# Altium footprint library ATK-2014-09-12.PcbLib: 436 footprints (part 11 of 28)
Each footprint in its own frame and in the unit in brackets; x right, y up, seen from the top. Pads: shape width x height; smd on the part's side, far side on the other; paste and mask are expansions set on the pad; w line width, h text height; cw(c..) or ccw(c..) is an arc to the next point about the centre after c.
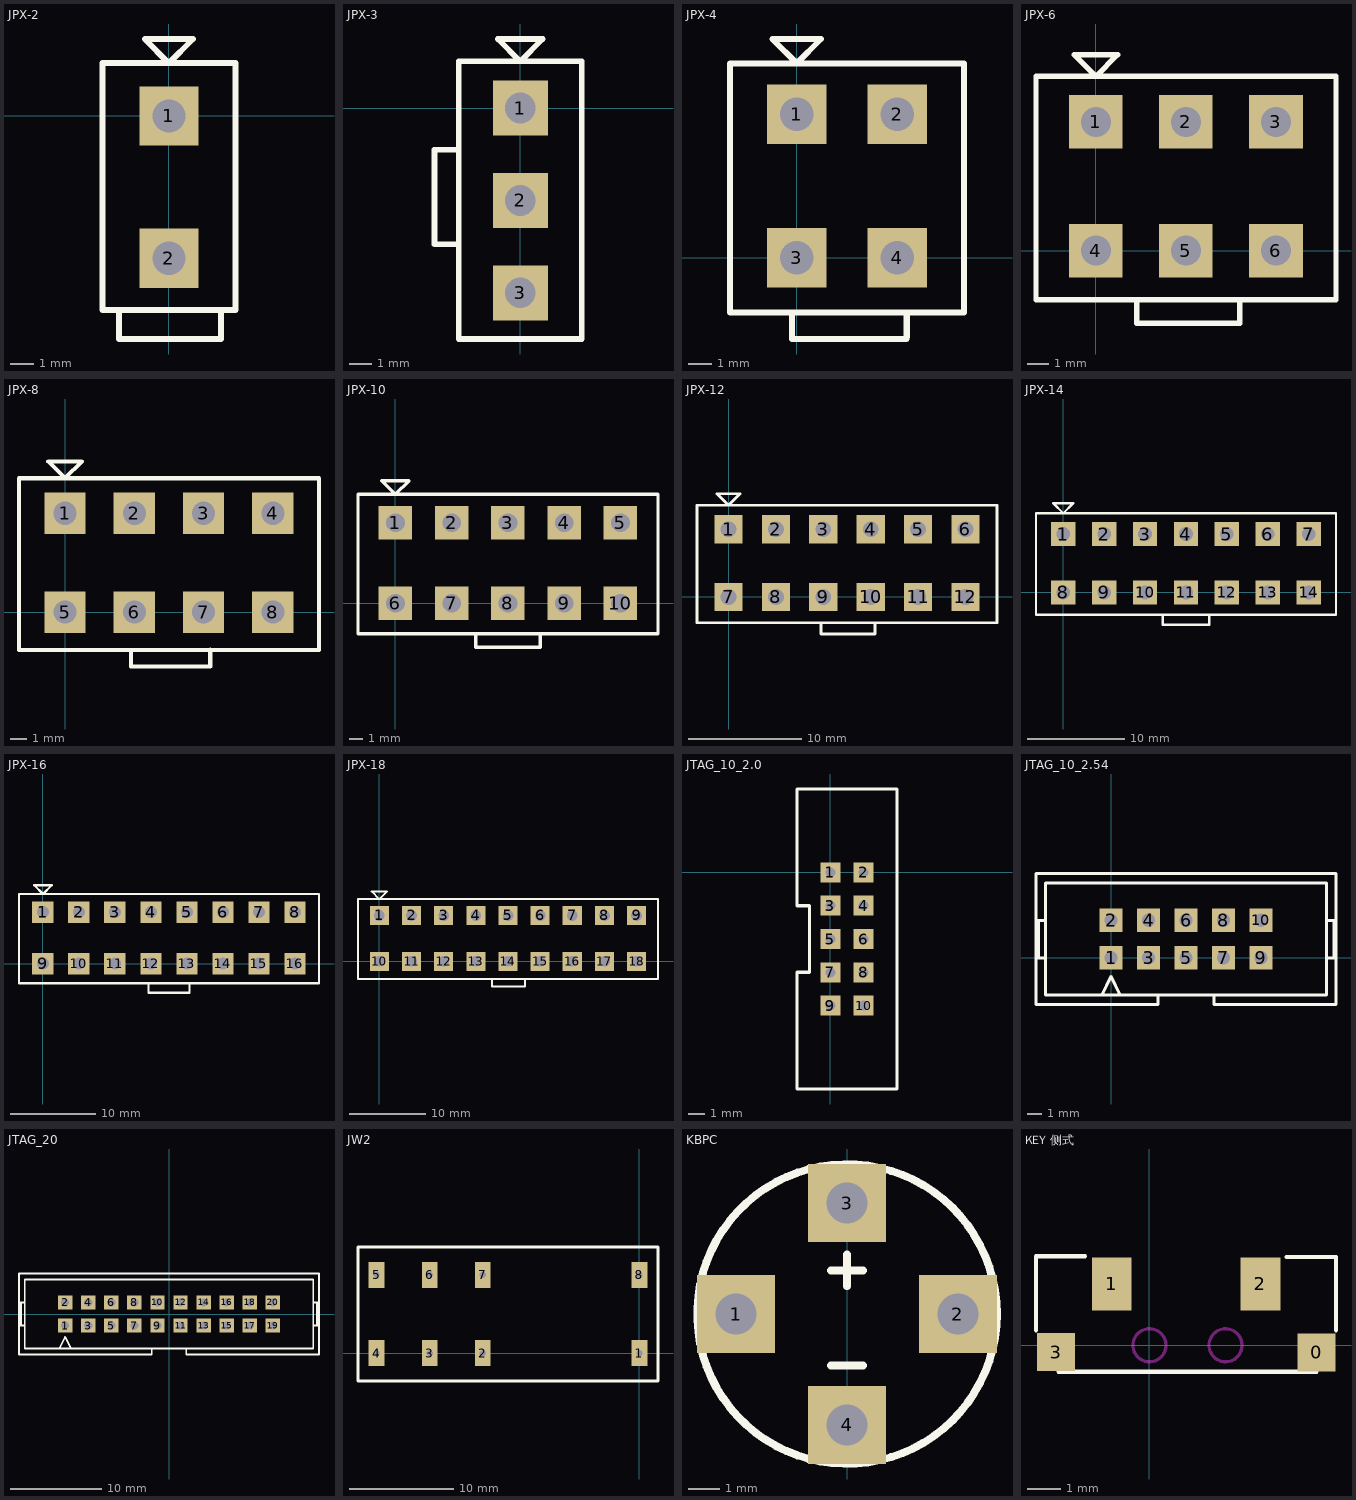
[diagram p10: the footprints below, top view; thin cyan lines are the x and y axes]

## JPX-2 [mm] "PIN:4.2*6mm;H:13mm;HOLE:1.4mm;"
height 13
pads (2):
  rect 2.5x2.5 hole 1.4: 1(0,0) 2(0,-6)
Top Overlay:
  lines w0.254: -2.1,-8.3 -2.1,-9.4 2.2,-9.4 ; 2.2,-9.316 2.2,-8.2 ; -2.794,-8.186 -2.794,2.228 2.8,2.228 2.8,-8.186 -2.794,-8.186 ; -1.016,3.244 1.016,3.244 0,2.228 -1.016,3.244

## JPX-3 [mm] "PIN:4.2*6mm;H:13mm;HOLE:1.4mm;"
height 13
pads (3):
  rect 2.5x2.5 hole 1.4: 1(0,0) 2(0,-4.2) 3(0,-8.4)
Top Overlay:
  lines w0.254: -3.916,-1.9 -2.8,-1.9 ; -3.9,-1.9 -3.9,-6.2 -2.8,-6.2 ; -2.794,-10.5 -2.794,2.128 2.8,2.128 2.8,-10.5 -2.794,-10.5 ; -1.016,3.144 1.016,3.144 0,2.128 -1.016,3.144

## JPX-4 [mm] "PIN:4.2*6mm;H:13mm;HOLE:1.4mm;"
height 13
pads (4):
  rect 2.5x2.5 hole 1.4: 1(0,6) 2(4.2,6) 3(0,0) 4(4.2,0)
Top Overlay:
  lines w0.254: -0.2,-2.4 -0.2,-3.4 4.598,-3.4 ; 4.6,-3.316 4.6,-2.3 ; -2.794,-2.286 7,-2.286 7,8.128 -2.794,8.128 -2.794,-2.286 ; -1.016,9.144 0,8.128 1.016,9.144 -1.016,9.144

## JPX-6 [mm] "PIN:4.2*6mm;H:13mm;HOLE:1.4mm;"
height 13
pads (6):
  rect 2.5x2.5 hole 1.4: 1(0,6) 2(4.2,6) 3(8.4,6) 4(0,0) 5(4.2,0) 6(8.4,0)
Top Overlay:
  lines w0.254: 1.9,-3.3 1.9,-2.3 ; 1.902,-3.4 6.7,-3.4 ; 6.7,-3.316 6.7,-2.3 ; -2.794,-2.286 11.2,-2.286 11.2,8.128 -2.794,8.128 -2.794,-2.286 ; -1.016,9.144 0,8.128 1.016,9.144 -1.016,9.144

## JPX-8 [mm] "PIN:4.2*6mm;H:13mm;HOLE:1.4mm;"
height 13
pads (8):
  rect 2.5x2.5 hole 1.4: 1(0,6) 2(4.2,6) 3(8.4,6) 4(12.6,6) 5(0,0) 6(4.2,0) 7(8.4,0) 8(12.6,0)
Top Overlay:
  lines w0.254: 4,-2.3 4,-3.3 8.798,-3.3 ; 8.8,-3.3 8.8,-2.284 ; -2.794,-2.286 -2.794,8.128 15.4,8.128 15.4,-2.286 -2.794,-2.286 ; -1.016,9.144 1.016,9.144 0,8.128 -1.016,9.144

## JPX-10 [mm] "PIN:4.2*6mm;H:13mm;HOLE:1.4mm;"
height 13
pads (10):
  rect 2.5x2.5 hole 1.4: 1(0,6) 2(4.2,6) 3(8.4,6) 4(12.6,6) 5(16.8,6) 6(0,0) 7(4.2,0) 8(8.4,0) 9(12.6,0) 10(16.8,0)
Top Overlay:
  lines w0.254: 6,-3.3 6,-2.284 ; 6.002,-3.3 10.8,-3.3 10.8,-2.284 ; 10.2,-3.3 10.202,-3.302 ; -2.794,-2.286 19.6,-2.286 19.6,8.128 -2.794,8.128 -2.794,-2.286 ; -1.016,9.144 0,8.128 1.016,9.144 -1.016,9.144

## JPX-12 [mm] "PIN:4.2*6mm;H:13mm;HOLE:1.4mm;"
height 13
pads (12):
  rect 2.5x2.5 hole 1.4: 1(0,6) 2(4.2,6) 3(8.4,6) 4(12.6,6) 5(16.8,6) 6(21,6) 7(0,0) 8(4.2,0) 9(8.4,0) 10(12.6,0) 11(16.8,0) 12(21,0)
Top Overlay:
  lines w0.254: 8.2,-2.284 8.2,-3.3 12.998,-3.3 ; 10.2,-3.3 10.202,-3.302 ; 13,-3.3 13,-2.284 ; -2.794,-2.286 -2.794,8.128 23.8,8.128 23.8,-2.286 -2.794,-2.286 ; -1.016,9.144 1.016,9.144 0,8.128 -1.016,9.144

## JPX-14 [mm] "PIN:4.2*6mm;H:13mm;HOLE:1.4mm;"
height 13
pads (14):
  rect 2.5x2.5 hole 1.4: 1(0,6) 2(4.2,6) 3(8.4,6) 4(12.6,6) 5(16.8,6) 6(21,6) 7(25.2,6) 8(0,0) 9(4.2,0) 10(8.4,0) 11(12.6,0) 12(16.8,0) 13(21,0) 14(25.2,0)
Top Overlay:
  lines w0.254: 10.2,-2.284 10.2,-3.3 10.202,-3.302 15,-3.302 15,-2.286 ; -2.794,-2.286 28,-2.286 28,8.128 -2.794,8.128 -2.794,-2.286 ; -1.016,9.144 0,8.128 1.016,9.144 -1.016,9.144

## JPX-16 [mm]
height 13
pads (16):
  rect 2.5x2.5 hole 1.4: 1(0,6) 2(4.2,6) 3(8.4,6) 4(12.6,6) 5(16.8,6) 6(21,6) 7(25.2,6) 8(29.4,6) 9(0,0) 10(4.2,0) 11(8.4,0) 12(12.6,0) 13(16.8,0) 14(21,0) 15(25.2,0) 16(29.4,0)
Top Overlay:
  lines w0.254: 12.3,-3.4 17.1,-3.4 ; 12.3,-3.316 12.3,-2.3 ; 17.1,-3.316 17.1,-2.3 ; -2.794,-2.286 32.2,-2.286 32.2,8.128 -2.794,8.128 -2.794,-2.286 ; -1.016,9.144 0,8.128 1.016,9.144 -1.016,9.144

## JPX-18 [mm]
height 13
pads (18):
  rect 2.5x2.5 hole 1.4: 1(0,6) 2(4.2,6) 3(8.4,6) 4(12.6,6) 5(16.8,6) 6(21,6) 7(25.2,6) 8(29.4,6) 9(33.6,6) 10(0,0) 11(4.2,0) 12(8.4,0) 13(12.6,0) 14(16.8,0) 15(21,0) 16(25.2,0) 17(29.4,0) 18(33.6,0)
Top Overlay:
  lines w0.254: 14.732,-2.286 14.732,-3.302 19.05,-3.302 19.05,-2.286 ; -2.794,-2.286 -2.794,8.128 36.4,8.128 36.4,-2.286 -2.794,-2.286 ; -1.016,9.144 1.016,9.144 0,8.128 -1.016,9.144

## JTAG_10_2.0 [mm] "2.0"
pads (10):
  rect 1.2x1.2 hole 0.6: 1(0,0) 2(2,0) 3(0,-2) 4(2,-2) 5(0,-4) 6(2,-4) 7(0,-6) 8(2,-6) 9(0,-8) 10(2,-8)
Top Overlay:
  lines w0.2: -2,-13 -2,-6 -1.25,-6 -1.25,-2 -2,-2 -2,3.25 -2,5 4,5 4,-13 -2,-13

## JTAG_10_2.54 [mil] "JTAG,20PIN"
height 393.7
pads (10):
  rect 62x62 hole 35: 1(0,0) 2(0,100) 3(100,0) 4(100,100) 5(200,0) 6(200,100) 7(300,0) 8(300,100) 9(400,0) 10(400,100)
Top Overlay:
  rectangle: -200,0 -190,100
  rectangle: 590,0 600,100
  lines w8: -175,0 -200,0 -200,100 -175,100 ; -25,-100 0,-50 25,-100 ; 125,-105 125,-125 -200,-125 -200,225 600,225 600,-125 275,-125 275,-100 ; 505,-100 575,-100 575,200 -175,200 -175,-100 375,-100 525,-100 ; 575,0 600,0 ; 575,100 600,100

## JTAG_20 [mil] "JTAG,20PIN"
height 393.7
pads (20):
  rect 62x62 hole 35: 1(-450,-50) 2(-450,50) 3(-350,-50) 4(-350,50) 5(-250,-50) 6(-250,50) 7(-150,-50) 8(-150,50) 9(-50,-50) 10(-50,50) 11(50,-50) 12(50,50) 13(150,-50) 14(150,50) 15(250,-50) 16(250,50) 17(350,-50) 18(350,50) 19(450,-50) 20(450,50)
Top Overlay:
  lines w8: -650,-50 -625,-50 ; -650,50 -625,50 ; -641.67,-50 -641.67,50 ; -475,-150 -450,-100 -425,-150 ; -339.57,-175 -75,-175 -75,-150 ; -325,-175 -650,-175 -650,175 650,175 650,-175 325,-175 75,-175 75,-150 ; 625,-50 650,-50 ; 625,50 650,50 ; 641.67,-50 641.67,50 ; -75,-150 75,-150 ; -75,-150 -625,-150 -625,150 625,150 625,-150 75,-150

## JW2 [mm]
height 20
pads (8):
  rect 1.5x2.5 hole 0.6: 1(0,0) 2(-14.986,0) 3(-20.066,0) 4(-25.146,0) 5(-25.146,7.493) 6(-20.066,7.493) 7(-14.986,7.493) 8(0,7.493)
Top Overlay:
  lines w0.254: -26.924,-2.667 -26.924,10.16 1.778,10.16 1.778,-2.667 -26.797,-2.667

## KBPC [mm] "2W10"
height 5
pads (4):
  rect 2.5x2.5 hole 1.3: 1(-3.556,12.7) 2(3.556,12.7) 3(0,16.256) 4(0,9.144)
Top Overlay:
  circle w0.254: c0,12.7 r4.8
  lines w0.254: -0.508,11.049 0.508,11.049 ; -0.508,14.097 0,14.097 0.508,14.097 ; 0,13.589 0,14.605

## KEY 侧式 [mm] "按键 贴片 侧式"
pads (4):
  rect 1.15x1.15 smd: 0(5.05,-0.216) 3(-2.819,-0.203)
  rect 1.2x1.6 smd: 1(-1.142,1.854) 2(3.354,1.854)
Top Overlay:
  lines w0.127: -3.429,0.457 -3.429,2.692 -1.948,2.692 ; -2.75,-0.8 5.05,-0.8 ; 4.14,2.667 5.639,2.667 5.639,0.457
Keep-Out Layer:
  circle w0.1: c0,0 r0.5
  circle w0.1: c2.3,0 r0.5